# Altium footprint library D-SUB.PcbLib: 6 footprints
Each footprint in its own frame and in the unit in brackets; x right, y up, seen from the top. Pads: shape width x height; smd on the part's side, far side on the other; paste and mask are expansions set on the pad; w line width, h text height; cw(c..) or ccw(c..) is an arc to the next point about the centre after c.
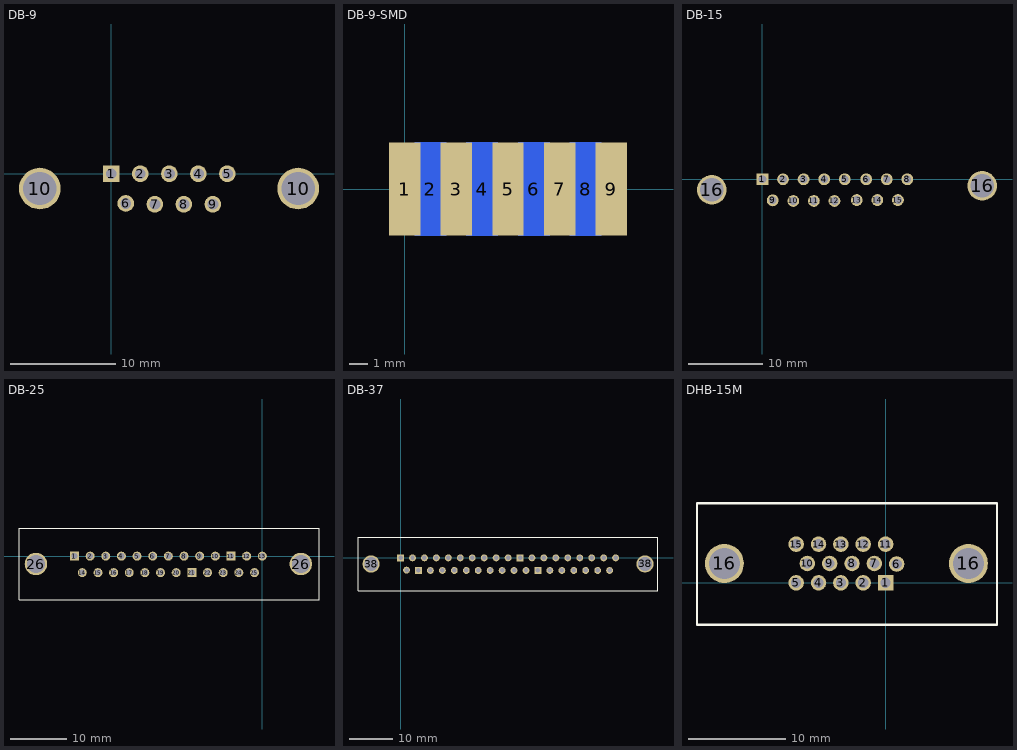
[diagram p0: the footprints below, top view; thin cyan lines are the x and y axes]

## DB-9 [mm]
pads (11):
  rect 1.59x1.59 hole 1.04: 1(0,0)
  round 1.59 hole 1.04: 2(2.77,0) 3(5.54,0) 4(8.31,0) 5(11.08,0) 6(1.385,-2.84) 7(4.155,-2.921) 8(6.925,-2.921) 9(9.695,-2.921)
  round 3.98 hole 3.18: 10(-6.82,-1.42) 10(17.84,-1.42)
3D body: height 12.5, standoff -3.7, extent -9.982,-7.674 20.828,4.826

## DB-9-SMD [mm]
pads (9):
  rect 1.68x5 smd: 1(0,0) 3(2.77,0) 5(5.54,0) 7(8.31,0) 9(11.08,0)
  rect 1.68x5 smd far side: 2(1.385,0) 4(4.155,0) 6(6.925,0) 8(9.695,0)

## DB-15 [mm]
pads (17):
  rect 1.59x1.59 hole 1.04: 1(0,0)
  round 1.59 hole 1.04: 2(2.77,0) 3(5.54,0) 4(8.31,0) 5(11.08,0) 6(13.97,0) 7(16.74,0) 8(19.51,0) 9(1.385,-2.84) 10(4.155,-2.921) 11(6.925,-2.921) 12(9.695,-2.921) 13(12.7,-2.794) 14(15.47,-2.794) 15(18.24,-2.794)
  round 3.98 hole 3.18: 16(-6.82,-1.42) 16(29.591,-0.889)

## DB-25 [mm]
pads (27):
  rect 1.59x1.59 hole 1.04: 1(-33.24,0) 11(-5.54,0) 21(-12.465,-2.921)
  round 1.59 hole 1.04: 2(-30.47,0) 3(-27.7,0) 4(-24.93,0) 5(-22.16,0) 6(-19.39,0) 7(-16.62,0) 8(-13.85,0) 9(-11.08,0) 10(-8.31,0) 12(-2.77,0) 13(0,0) 14(-31.855,-2.921) 15(-29.085,-2.921) 16(-26.315,-2.921) 17(-23.545,-2.921) 18(-20.775,-2.921) 19(-18.005,-2.921) 20(-15.235,-2.921) 22(-9.695,-2.921) 23(-6.925,-2.921) 24(-4.155,-2.921) 25(-1.385,-2.921)
  round 3.98 hole 3.18: 26(-40.06,-1.397) 26(6.82,-1.397)
Top Overlay:
  lines w0.2: -43.053,-7.747 10.033,-7.747 10.033,4.953 -43.053,4.953 -43.053,-7.747
3D body: height 12.8, standoff -4.4, extent -43.03,-7.672 10.01,4.878

## DB-37 [mm]
pads (39):
  rect 1.59x1.59 hole 1.04: 1(0,0) 11(27.7,0) 21(4.155,-2.921) 31(31.855,-2.921)
  round 1.59 hole 1.04: 2(2.77,0) 3(5.54,0) 4(8.31,0) 5(11.08,0) 6(13.85,0) 7(16.62,0) 8(19.39,0) 9(22.16,0) 10(24.93,0) 12(30.47,0) 13(33.24,0) 14(36.01,0) 15(38.78,0) 16(41.55,0) 17(44.32,0) 18(47.09,0) 19(49.86,0) 20(1.385,-2.84) 22(6.925,-2.921) 23(9.695,-2.921) 24(12.465,-2.921) 25(15.235,-2.921) 26(18.005,-2.921) 27(20.775,-2.921) 28(23.545,-2.921) 29(26.315,-2.921) 30(29.085,-2.921) 32(34.625,-2.921) 33(37.395,-2.921) 34(40.165,-2.921) 35(42.935,-2.921) 36(45.705,-2.921) 37(48.475,-2.921)
  round 3.98 hole 3.18: 38(-6.82,-1.42) 38(56.68,-1.397)
Top Overlay:
  lines w0.2: -9.868,-7.643 59.69,-7.643 59.69,4.803 -9.868,4.803 -9.868,-1.42 -9.868,-7.643
3D body: height 12.7, standoff -4.5, extent -9.757,-7.672 59.563,4.878

## DHB-15M [mm]
pads (17):
  rect 1.59x1.59 hole 1.04: 1(0,0)
  round 1.59 hole 1.04: 2(-2.29,0) 3(-4.58,0) 4(-6.87,0) 5(-9.16,0) 6(1.14,1.928) 7(-1.15,1.98) 8(-3.44,1.98) 9(-5.73,1.98) 10(-8.02,1.98) 11(0,3.96) 12(-2.29,3.96) 13(-4.58,3.96) 14(-6.87,3.96) 15(-9.16,3.96)
  round 3.98 hole 3.18: 16(-16.508,1.98) 16(8.493,1.98)
Top Overlay:
  lines w0.254: -19.32,-4.295 9.89,-4.295 11.414,-4.295 11.414,8.151 -19.32,8.151 -19.32,-4.295
3D body: height 13.5, standoff -3.02, extent -19.358,-4.322 11.452,8.178